# Altium schematic symbol library SC32S-12.5PF20PPM.SchLib: 1 symbol
Pins are listed as number, name and electrical type; pins without a type are passive.

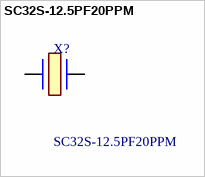
[diagram p0: symbol SC32S-12.5PF20PPM]

## SC32S-12.5PF20PPM
designator X?
32.768 kHz +/-20ppm Crystal 12.5pF 70 kOhms 2-SMD, No Lead; Manufacturer_Name: Seiko Epson Corporation; Geometry.Height: 0.85mm; Manufacturer_Part_Number: SC32S-12.5PF20PPM; Mouser Part Number: 628-SC32S-125PF20PPM; Mouser Price/Stock: https://www.mouser.co.uk/ProductDetail/Seiko-Instruments-Micro-Energy/SC32S-12.5PF20PPM?qs=3CPZD7qAgihedyqH7awUjg%3D%3D; Arrow Part Number: SC32S-12.5PF20PPM; Arrow Price/Stock: https://www.arrow.com/en/products/sc32s-12.5pf20ppm/seiko-instruments-inc?utm_currency=USD&region=nac; Datasheet Link: https://www.sii.co.jp/en/quartz/files/2013/03/SC-32S_Leaflet_e20151217.pdf
footprint SC32S125PF20PPM
pins: 1, 2